# Altium footprint library parts.PCBLIB: 24 footprints (part 1 of 2)
Each footprint in its own frame and in the unit in brackets; x right, y up, seen from the top. Pads: shape width x height; smd on the part's side, far side on the other; paste and mask are expansions set on the pad; w line width, h text height; cw(c..) or ccw(c..) is an arc to the next point about the centre after c.
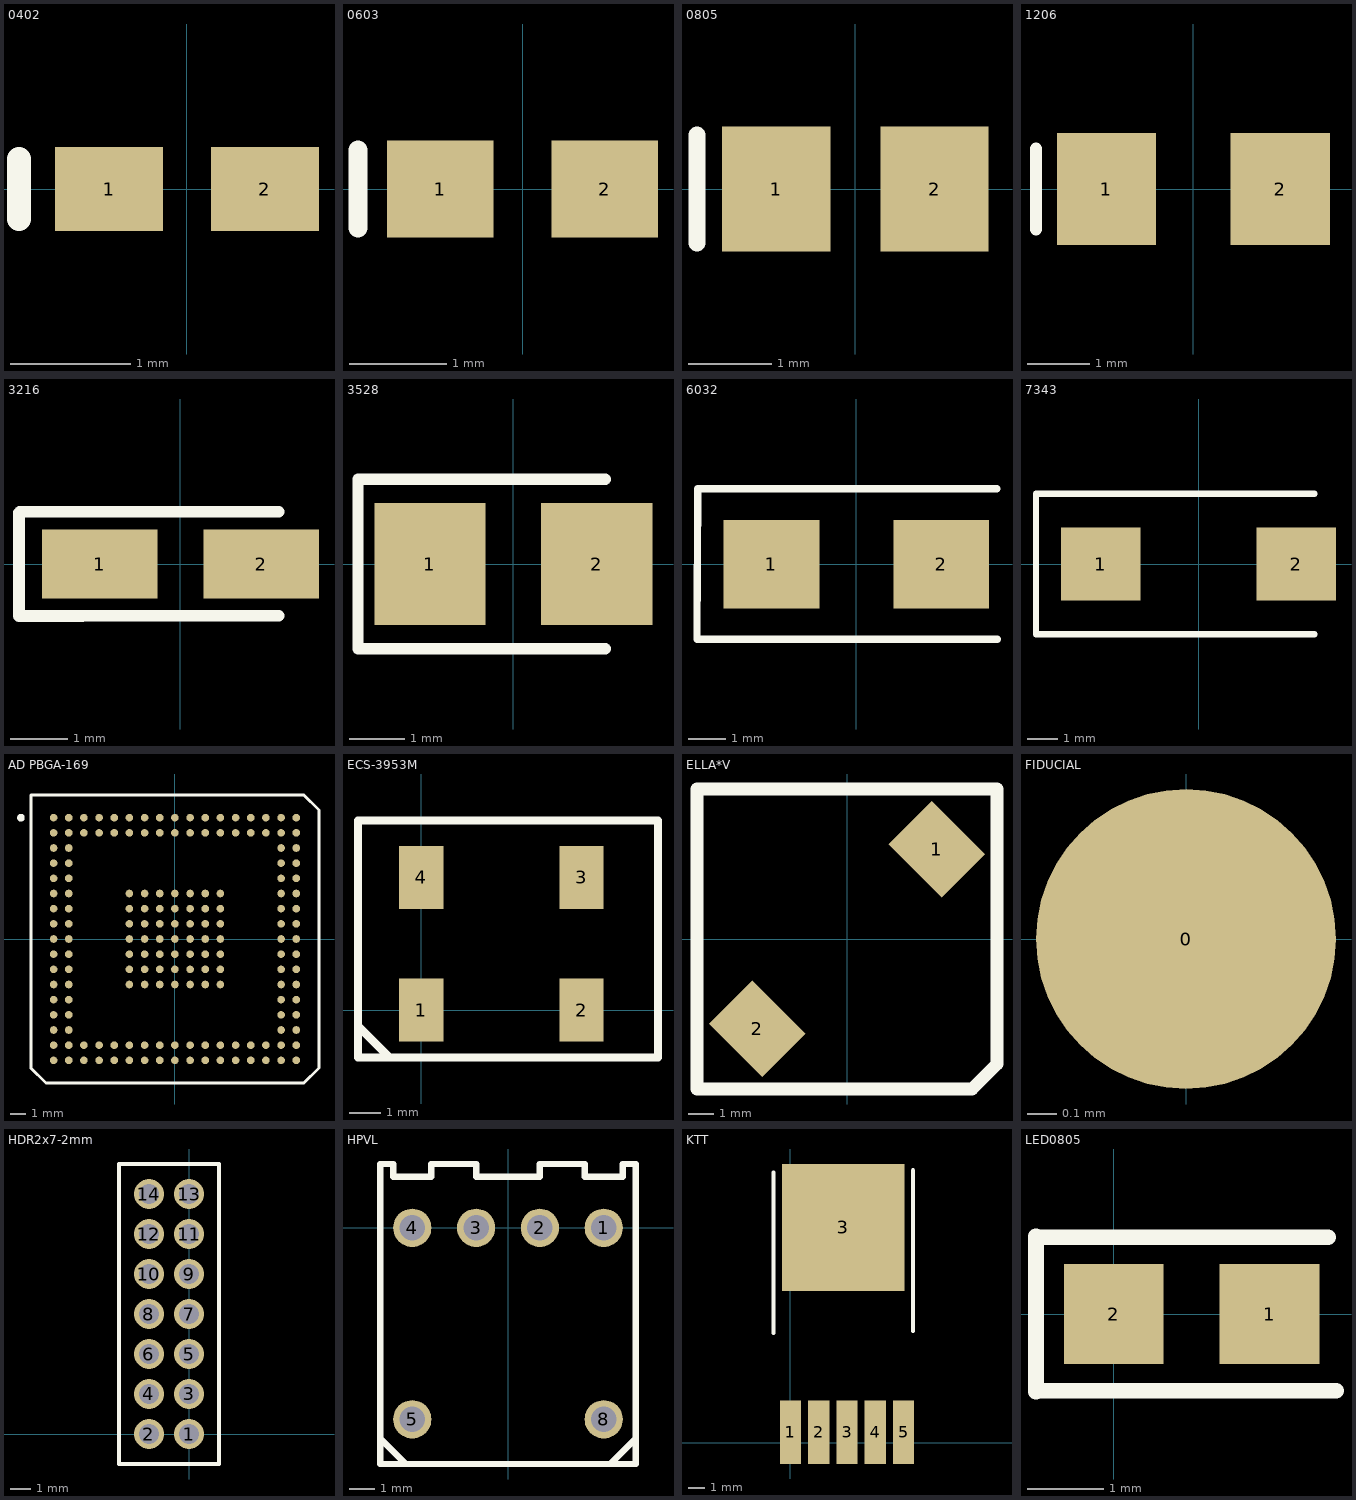
[diagram p0: the footprints below, top view; thin cyan lines are the x and y axes]

## 0402 [mm] "Standard-sized 0402 Passive"
pads (2):
  rect 0.9x0.7 smd: 1(-0.65,0) 2(0.65,0)
Top Overlay:
  lines w0.2: -1.4,-0.25 -1.4,0.25

## 0603 [mm] "Standard-sized 0603 Passive"
pads (2):
  rect 1.1x1 smd: 1(-0.85,0) 2(0.85,0)
Top Overlay:
  lines w0.2: -1.7,-0.4 -1.7,0.4

## 0805 [mm] "Standard-sized 0805 Passive"
pads (2):
  rect 1.3x1.5 smd: 1(-0.95,0) 2(0.95,0)
Top Overlay:
  lines w0.2: -1.9,-0.65 -1.9,0.65

## 1206 [mm] "Standard-sized 1206 Passive"
pads (2):
  rect 1.6x1.8 smd: 1(-1.4,0) 2(1.4,0)
Top Overlay:
  lines w0.2: -2.535,-0.65 -2.535,0.65

## 3216 [mm] "Standard-Sized 3216 Polarized Leadless Cap"
pads (2):
  rect 2x1.2 smd: 1(-1.4,0) 2(1.4,0)
Top Overlay:
  lines w0.2: -2.782,0.901 1.7,0.901 ; -1.7,-0.899 1.7,-0.899
  lines w0.203: -2.794,-0.899 -1.7,-0.899 ; -2.794,-0.889 -2.794,0.889 -2.782,0.901

## 3528 [mm] "Standard-Sized 3528 Polarized Leadless Cap"
pads (2):
  rect 2x2.2 smd: 1(-1.5,0) 2(1.5,0)
Top Overlay:
  lines w0.203: -2.794,-1.524 1.651,-1.524 ; -2.794,-1.5 -2.794,1.5 ; -2.794,1.524 1.651,1.524

## 6032 [mm] "Standard-Sized 7343 Polarized Leadless Cap"
pads (2):
  rect 2.6x2.4 smd: 1(-2.3,0) 2(2.3,0)
Top Overlay:
  lines w0.203: -4.318,-2.032 -4.304,2.046 3.8,2.046 ; -4.294,-2.032 3.81,-2.032

## 7343 [mm] "Standard-Sized 7343 Polarized Leadless Cap"
pads (2):
  rect 2.6x2.4 smd: 1(-3.2,0) 2(3.2,0)
Top Overlay:
  lines w0.203: 3.8,-2.3 -5.32,-2.3 -5.32,2.3 3.8,2.3

## AD PBGA-169 [mm] "BGA, Mini Plastic; 169 Balls; Body 19 x 19 mm; Pitch 1 mm"
height 2.5
pads (169):
  round 0.5 smd: A1(-8,8) A2(-7,8) A3(-6,8) A4(-5,8) A5(-4,8) A6(-3,8) A7(-2,8) A8(-1,8) A9(0,8) A10(1,8) A11(2,8) A12(3,8) A13(4,8) A14(5,8) A15(6,8) A16(7,8) A17(8,8) B1(-8,7) B2(-7,7) B3(-6,7) B4(-5,7) B5(-4,7) B6(-3,7) B7(-2,7) B8(-1,7) B9(0,7) B10(1,7) B11(2,7) B12(3,7) B13(4,7) B14(5,7) B15(6,7) B16(7,7) B17(8,7) C1(-8,6) C2(-7,6) C16(7,6) C17(8,6) D1(-8,5) D2(-7,5) D16(7,5) D17(8,5) E1(-8,4) E2(-7,4) E16(7,4) E17(8,4) F1(-8,3) F2(-7,3) F6(-3,3) F7(-2,3) F8(-1,3) F9(0,3) F10(1,3) F11(2,3) F12(3,3) F16(7,3) F17(8,3) G1(-8,2) G2(-7,2) G6(-3,2) G7(-2,2) G8(-1,2) G9(0,2) G10(1,2) G11(2,2) G12(3,2) G16(7,2) G17(8,2) H1(-8,1) H2(-7,1) H6(-3,1) H7(-2,1) H8(-1,1) H9(0,1) H10(1,1) H11(2,1) H12(3,1) H16(7,1) H17(8,1) J1(-8,0) J2(-7,0) J6(-3,0) J7(-2,0) J8(-1,0) J9(0,0) J10(1,0) J11(2,0) J12(3,0) J16(7,0) J17(8,0) K1(-8,-1) K2(-7,-1) K6(-3,-1) K7(-2,-1) K8(-1,-1) K9(0,-1) K10(1,-1) K11(2,-1) K12(3,-1) K16(7,-1) K17(8,-1) L1(-8,-2) L2(-7,-2) L6(-3,-2) L7(-2,-2) L8(-1,-2) L9(0,-2) L10(1,-2) L11(2,-2) L12(3,-2) L16(7,-2) L17(8,-2) M1(-8,-3) M2(-7,-3) M6(-3,-3) M7(-2,-3) M8(-1,-3) M9(0,-3) M10(1,-3) M11(2,-3) M12(3,-3) M16(7,-3) M17(8,-3) N1(-8,-4) N2(-7,-4) N16(7,-4) N17(8,-4) P1(-8,-5) P2(-7,-5) P16(7,-5) P17(8,-5) R1(-8,-6) R2(-7,-6) R16(7,-6) R17(8,-6) T1(-8,-7) T2(-7,-7) T3(-6,-7) T4(-5,-7) T5(-4,-7) T6(-3,-7) T7(-2,-7) T8(-1,-7) T9(0,-7) T10(1,-7) T11(2,-7) T12(3,-7) T13(4,-7) T14(5,-7) T15(6,-7) T16(7,-7) T17(8,-7) U1(-8,-8) U2(-7,-8) U3(-6,-8) U4(-5,-8) U5(-4,-8) U6(-3,-8) U7(-2,-8) U8(-1,-8) U9(0,-8) U10(1,-8) U11(2,-8) U12(3,-8) U13(4,-8) U14(5,-8) U15(6,-8) U16(7,-8) U17(8,-8)
Top Overlay:
  circle w0.25: c-10.155,8 r0.125
  lines w0.2: -9.5,-8.5 -8.5,-9.5 8.5,-9.5 9.5,-8.5 9.5,8.5 8.5,9.5 -9.5,9.5 -9.5,-8.5

## ECS-3953M [mm] "ECS SMD CLOCK OSCILLATOR"
pads (4):
  rect 1.4x2 smd: 1(0,0) 2(5.08,0) 3(5.08,4.2) 4(0,4.2)
Top Overlay:
  lines w0.254: -2,-0.5 -1,-1.5 ; -2,-1.5 -2,6 7.5,6 7.5,-1.5 -2,-1.5

## ELLA*V [mm] "Chip choke coil  Panasonic ELLATV type"
height 4
pads (2):
  rect 3x2.45 smd rot 135: 1(3.592,3.592) 2(-3.592,-3.592)
Top Overlay:
  lines w0.508: -6,-6 5,-6 6,-5 6,6 -6,6 -6,-6

## FIDUCIAL [mil] "Fiducial footprint as recommended by PCBpro"
pads (1):
  round 40 smd paste-20 mask+30: 0(0,0)

## HDR2x7-2mm [mm]
pads (14):
  round 1.5 hole 1: 1(0,0) 2(-2,0) 3(0,2) 4(-2,2) 5(0,4) 6(-2,4) 7(0,6) 8(-2,6) 9(0,8) 10(-2,8) 11(0,10) 12(-2,10) 13(0,12) 14(-2,12)
Top Overlay:
  lines w0.2: -3.5,-1.5 -3.5,13.5 1.5,13.5 1.5,-1.5 -3.5,-1.5

## HPVL [mil]
pads (6):
  round 60 hole 40: 1(150,0) 2(50,0) 3(-50,0) 4(-150,0) 5(-150,-300) 8(150,-300)
Top Overlay:
  lines w10: -200,-340 -200,0 ; -200,-330 -160,-370 ; -200,-300 -200,-370 200,-370 200,-340 200,0 200,100 180,100 180,80 120,80 120,100 50,100 50,80 -50,80 -50,100 -120,100 -120,80 -180,80 -180,100 -200,100 -200,-10 ; 160,-370 200,-330

## KTT [mil] "TI DDPAK-5"
pads (6):
  rect 50x150 smd: 1(0,25) 2(67,25) 3(134,25) 4(201,25) 5(268,25)
  rect 290x300 smd: 3(125,510)
Top Overlay:
  lines w10: -40,260 -40,640 ; 290,265 290,645

## LED0805 [mm] "Lite-ON 0805 LED package"
pads (2):
  rect 1.3x1.3 smd: 1(2.032,0) 2(0,0)
Top Overlay:
  lines w0.203: -1.016,-1.016 -1.016,-0.635 -1.016,1.016 ; -1,-1 2.9,-1 ; -1,1 2.8,1